# EAGLE library part TLV9052IDR (library TLV9052IDR)
Dual 5MHz, 15V/us high slew-rate, RRIO op amp Source: Datasheet <http://www.ti.com/lit/gpn/TLV9052>
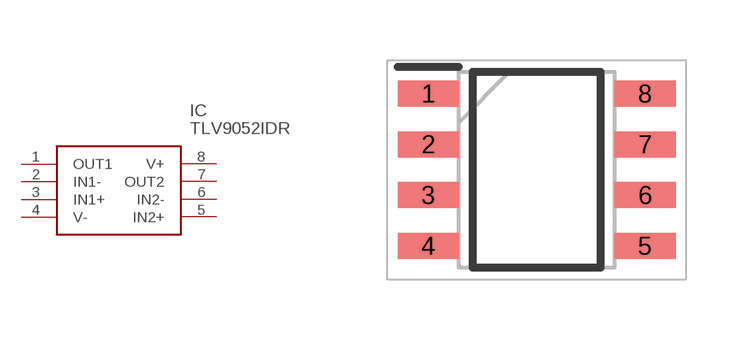
[diagram p0: symbol with the pads of SOIC127P600X175-8N; footprint SOIC127P600X175-8N]

Designator prefix IC

## TLV9052IDR (Description: Dual 5MHz, 15V/us high slew-rate, RRIO op amp; Height: 1.75mm; Manufacturer_Name: Texas Instruments; Manufacturer_Part_Number: TLV9052IDR; Mouser_Part_Number: 595-TLV9052IDR; Mouser_Price-Stock: https://www.mouser.co.uk/ProductDetail/Texas-Instruments/TLV9052IDR?qs=qSfuJ%252Bfl%2Fd40FZ%252BJUm2hDA%3D%3D)  [SOIC127P600X175-8N]
1  OUT1
2  IN1-
3  IN1+
4  V-
5  IN2+
6  IN2-
7  OUT2
8  V+

## Footprint SOIC127P600X175-8N (pad centres in mm)
D0008A_00
smd 1.528 x 0.65: 1 -2.711,1.905; 2 -2.711,0.635; 3 -2.711,-0.635; 4 -2.711,-1.905; 5 2.711,-1.905; 6 2.711,-0.635; 7 2.711,0.635; 8 2.711,1.905